# EAGLE library part A3255-Q48 (library avalon)
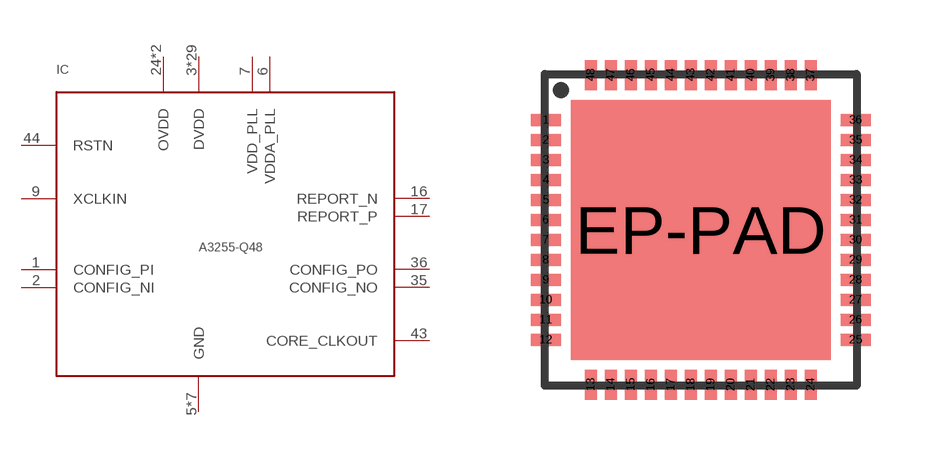
[diagram p0: symbol with the pads of QFN48; footprint QFN48]

Designator prefix IC

## A3255-Q48  [QFN48]
1  CONFIG_PI
2  CONFIG_NI
3  DVDD
4  DVDD
5  GND
6  VDDA_PLL
7  VDD_PLL
8  GND
9  XCLKIN
10  DVDD
11  DVDD
12  GND
13  DVDD
14  DVDD
15  DVDD
16  REPORT_N
17  REPORT_P
18  DVDD
19  DVDD
20  DVDD
21  DVDD
22  DVDD
23  GND
24  OVDD
25  DVDD
26  DVDD
27  GND
28  DVDD
29  DVDD
30  DVDD
31  DVDD
32  DVDD
33  DVDD
34  DVDD
35  CONFIG_NO
36  CONFIG_PO
37  OVDD
38  GND
39  DVDD
40  DVDD
41  DVDD
42  DVDD
43  CORE_CLKOUT
44  RSTN
45  DVDD
46  DVDD
47  DVDD
48  DVDD
EP-PAD  GND

## Footprint QFN48 (pad centres in mm)
QFN40 7*7*0.9 0.5 P CASE 488AG?01 ISSUE O Source: http://www.onsemi.com/pub_link/Collateral/488AG.PDF
smd 0.75 x 0.3: 1 -3.375,2.25; 2 -3.375,1.75; 3 -3.375,1.25; 4 -3.375,0.75; 5 -3.375,0.25; 6 -3.375,-0.25; 7 -3.375,-0.75; 8 -3.375,-1.25; 9 -3.375,-1.75; 10 -3.375,-2.25; 11 -3.375,-2.75; 12 -3.375,-3.25; 25 4.375,-3.25; 26 4.375,-2.75; 27 4.375,-2.25; 28 4.375,-1.75; 29 4.375,-1.25; 30 4.375,-0.75; 31 4.375,-0.25; 32 4.375,0.25; 33 4.375,0.75; 34 4.375,1.25; 35 4.375,1.75; 36 4.375,2.25
smd 0.3 x 0.75: 13 -2.25,-4.375; 14 -1.75,-4.375; 15 -1.25,-4.375; 16 -0.75,-4.375; 17 -0.25,-4.375; 18 0.25,-4.375; 19 0.75,-4.375; 20 1.25,-4.375; 21 1.75,-4.375; 22 2.25,-4.375; 23 2.75,-4.375; 24 3.25,-4.375; 37 3.25,3.375; 38 2.75,3.375; 39 2.25,3.375; 40 1.75,3.375; 41 1.25,3.375; 42 0.75,3.375; 43 0.25,3.375; 44 -0.25,3.375; 45 -0.75,3.375; 46 -1.25,3.375; 47 -1.75,3.375; 48 -2.25,3.375
smd 6.5 x 6.5: EP-PAD 0.5,-0.5